# EAGLE library part BLUETOOTH (library HankLibrariesV2)
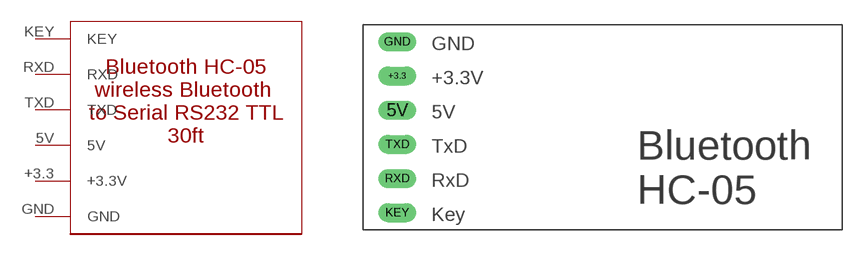
[diagram p2: symbol with the pads of BLUETOOTH_FOOTPRINT; footprint BLUETOOTH_FOOTPRINT]

Designator prefix -

## BLUETOOTH  [BLUETOOTH_FOOTPRINT]
5V  5V
+3.3  +3.3V
GND  GND
KEY  KEY
RXD  RXD
TXD  TXD

## Footprint BLUETOOTH_FOOTPRINT (pad centres in mm)
drill 0.9 long: 5V -15.24,1.27; +3.3 -15.24,3.81; GND -15.24,6.35; KEY -15.24,-6.35; RXD -15.24,-3.81; TXD -15.24,-1.27